# Altium footprint library DF4PIN.PcbLib: 1 footprints
Each footprint in its own frame and in the unit in brackets; x right, y up, seen from the top. Pads: shape width x height; smd on the part's side, far side on the other; paste and mask are expansions set on the pad; w line width, h text height; cw(c..) or ccw(c..) is an arc to the next point about the centre after c.
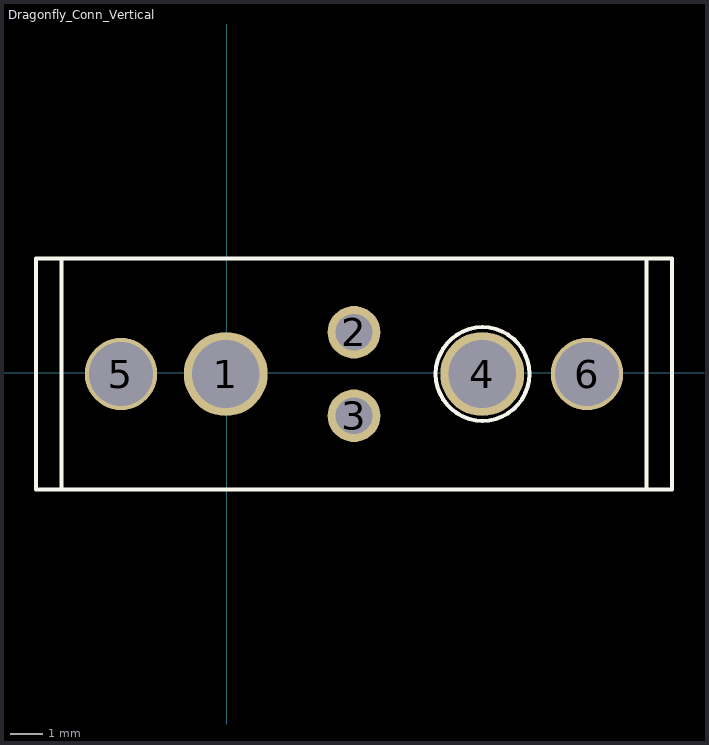
[diagram p0: the footprint, top view; thin cyan lines are the x and y axes]

## Dragonfly_Conn_Vertical [mm] "Dragonfly_Conn_Vertical"
pads (6):
  round 2.61 / inner round 2.61 / far side round 3 hole 2.11: 1(-0.029,-0.045) 4(7.951,-0.045)
  round 1.64 / inner round 1.64 / far side round 2.1 hole 1.14: 2(3.961,1.255) 3(3.961,-1.345)
  round 2.246 hole 2: 5(-3.289,-0.045) 6(11.211,-0.045)
Top Overlay:
  circle w0.127: c7.961,-0.045 r1.458
  lines w0.127: -5.939,-3.645 -5.939,3.555 13.861,3.555 13.861,-3.645 -5.939,-3.645 ; -5.139,-3.645 -5.139,3.555 13.061,3.555 13.061,-3.645 -5.139,-3.645
Bottom Overlay:
  circle w0.127: c7.961,-0.045 r1.79